# Altium schematic symbol library mycomp.SchLib: 2 symbols
Pins are listed as number, name and electrical type; pins without a type are passive.

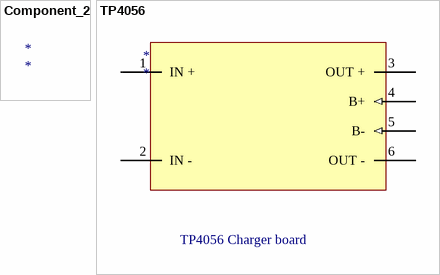
[diagram p0: symbols Component_2 to TP4056]

## Component_2
designator *

## TP4056
designator *
li ion charger board
pins: 1 IN + (power) "Z Axis", 2 IN - (power) "Z Axis", 3 OUT + (power) "Z Axis", 4 B+ (in) "Z Axis", 5 B- (in) "Z Axis", 6 OUT - (power) "Z Axis"
text: TP4056 Charger board